# EAGLE library part IV16TINY_NUMITRON (library kalshagar)
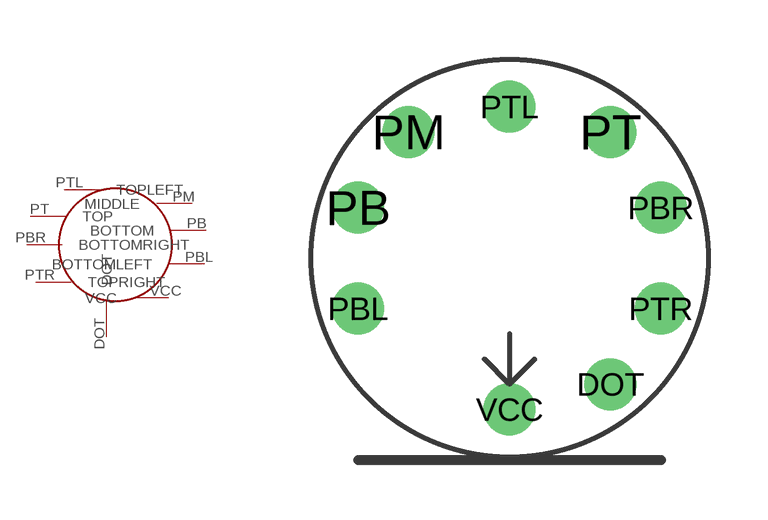
[diagram p2: symbol with the pads of IV16TINY_NUMITRON_PAC; footprint IV16TINY_NUMITRON_PAC]

Designator prefix -

## IV16TINY_NUMITRON  [IV16TINY_NUMITRON_PAC]
DOT  DOT
PB  BOTTOM  in
PBL  BOTTOMLEFT  in
PBR  BOTTOMRIGHT  in
PM  MIDDLE  in
PT  TOP  in
PTL  TOPLEFT  in
PTR  TOPRIGHT  in
VCC  VCC  in

## Footprint IV16TINY_NUMITRON_PAC (pad centres in mm)
drill 0.8: DOT 2.54,-3.175; PB -3.81,1.27; PBL -3.81,-1.27; PBR 3.81,1.27; PM -2.54,3.175; PT 2.54,3.175; PTL 0,3.81; PTR 3.81,-1.27; VCC 0,-3.81